# Altium footprint library Mosfet SMD.PcbLib: 3 footprints
Each footprint in its own frame and in the unit in brackets; x right, y up, seen from the top. Pads: shape width x height; smd on the part's side, far side on the other; paste and mask are expansions set on the pad; w line width, h text height; cw(c..) or ccw(c..) is an arc to the next point about the centre after c.
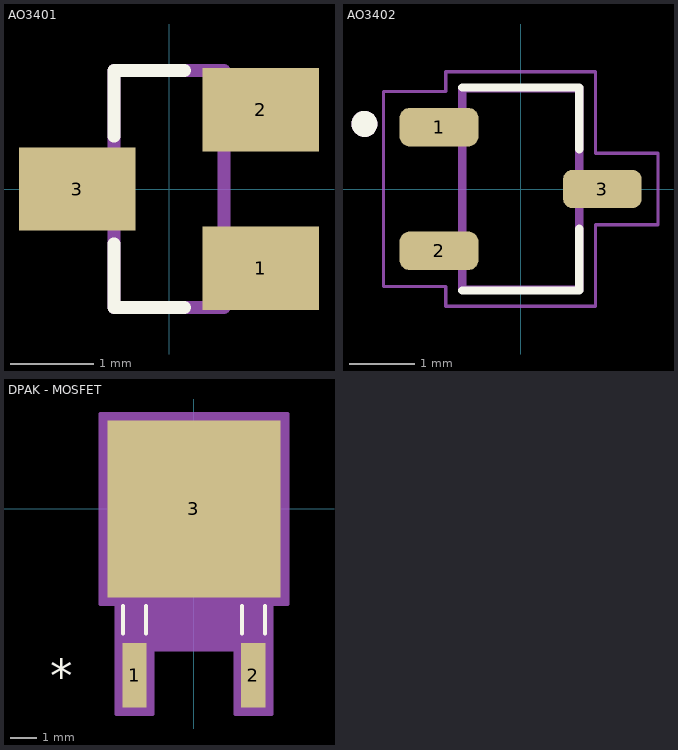
[diagram p0: the footprints below, top view; thin cyan lines are the x and y axes]

## AO3401 [mm]
pads (3):
  rect 1.4x1 smd: 1(1.1,-0.95) 2(1.1,0.95) 3(-1.1,0)
Top Overlay:
  lines w0.152: -0.66,-0.658 -0.66,-1.422 0.185,-1.422 ; -0.66,0.633 -0.66,1.422 0.185,1.422
Mechanical 13:
  region: 1.295,-1.168 0.711,-1.168 0.711,-0.711 1.295,-0.711
  region: 1.295,0.711 0.711,0.711 0.711,1.168 1.295,1.168
  region: -0.711,-0.229 -1.295,-0.229 -1.295,0.229 -0.711,0.229
  lines w0.152: -0.66,-1.422 -0.66,1.422 0.66,1.422 0.66,-1.422 -0.66,-1.422

## AO3402 [mm]
pads (3):
  rrect50% 1.21x0.59 smd: 1(-1.255,0.95) 2(-1.255,-0.95) 3(1.255,0)
Top Overlay:
  circle w0.2: c-2.4,1 r0.1
  lines w0.127: -0.9,-1.559 0.9,-1.559 0.9,-0.609 ; -0.9,1.559 0.9,1.559 0.9,0.609
Mechanical 13:
  circle w0.2: c-2.4,1 r0.1
  lines w0.127: -0.9,-1.55 -0.9,1.55 0.9,1.55 0.9,-1.55 -0.9,-1.55
Mechanical 15:
  lines w0.05: -2.11,-1.5 -1.15,-1.5 -1.15,-1.8 1.15,-1.8 1.15,-0.55 2.11,-0.55 2.11,0.55 1.15,0.55 1.15,1.8 -1.15,1.8 -1.15,1.5 -2.11,1.5 -2.11,-1.5

## DPAK - MOSFET [mil]
pads (3):
  rect 37x98 smd paste+0 mask+0: 1(-90.16,-252) 2(90.16,-252)
  rect 262x268 smd paste+0 mask+0: 3(0,0)
Top Overlay:
  lines w6: -107.66,-189 -107.66,-147.1 ; -72.66,-189 -72.66,-147.1 ; 72.66,-189 72.66,-147.1 ; 107.66,-189 107.66,-147.1
  text "*" at -217.81,-277 h50
Mechanical 13:
  lines w1: -17.5,-120 -17.5,-160 17.5,-160 17.5,-120 ; -130,-120 130,-120 130,120 -130,120 -130,-120 ; -107.66,-287 -107.66,-120 -72.66,-120 -72.66,-287 -107.66,-287 ; 72.66,-287 72.66,-120 107.66,-120 107.66,-287 72.66,-287
  text "*" at -102.66,-135 h50
Mechanical 15:
  region: -117.66,-144 -142,-144 -142,144 142,144 142,-144 117.66,-144 117.66,-311 62.66,-311 62.66,-213 -62.66,-213 -62.66,-311 -117.66,-311
  lines w6: -142,-144 -142,144 142,144 142,-144 117.66,-144 117.66,-311 62.66,-311 62.66,-213 -62.66,-213 -62.66,-311 -117.66,-311 -117.66,-144 -142,-144
3D body "DPAK.STEP": height 93.31, standoff 0, extent -129.92,-231.1 129.92,162.6